# EAGLE library part TJ18-L8P8C (library modular-jack)
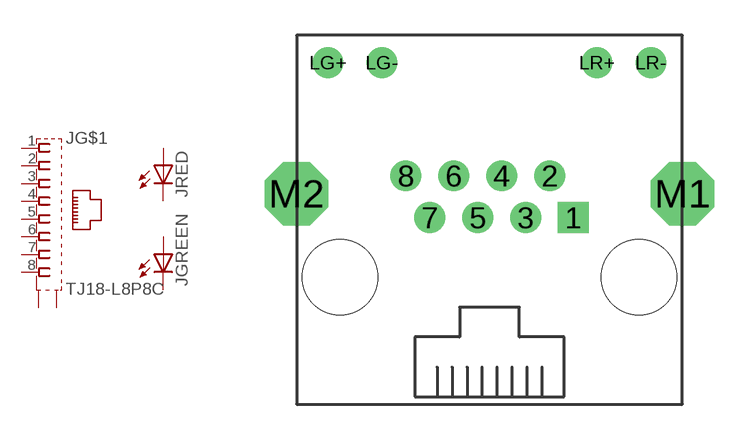
[diagram p2: symbol with the pads of 8P8C+LEDS; footprint 8P8C+LEDS]

Designator prefix J; gates G$1=JACK8SH RED=LED GREEN=LED

## TJ18-L8P8C-5  [8P8C+LEDS]
1  G$1:1  pas
2  G$1:2  pas
3  G$1:3  pas
4  G$1:4  pas
5  G$1:5  pas
6  G$1:6  pas
7  G$1:7  pas
8  G$1:8  pas
LG+  GREEN:A  pas
LG-  GREEN:C  pas
LR+  RED:A  pas
LR-  RED:C  pas
M1  G$1:S1  pas
M2  G$1:S2  pas

## Footprint 8P8C+LEDS (pad centres in mm)
drill 0.8 square: 1 3.555,2.54
drill 0.8 round: 2 2.565,4.32; 3 1.545,2.54; 4 0.525,4.32; 5 -0.495,2.54; 6 -1.515,4.32; 7 -2.535,2.54; 8 -3.555,4.32; LG+ -6.86,9.13; LG- -4.57,9.13; LR+ 4.57,9.13; LR- 6.86,9.13
drill 1.8 octagon: M1 8.2,3.56; M2 -8.2,3.56
hole 3.2 at -6.35,0
hole 3.2 at 6.35,0